# EAGLE library part JTAG (library Tft_lcd_header)
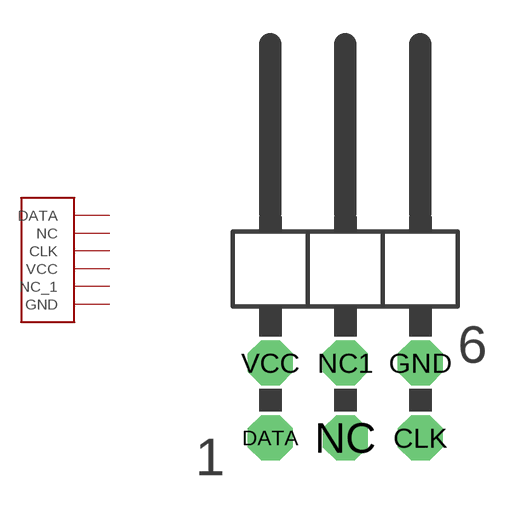
[diagram p2: symbol with the pads of JTAG; footprint JTAG]

Designator prefix -

## JTAG  [JTAG]
CLK  CLK
DATA  DATA
GND  GND  pwr
NC  NC  nc
NC1  NC_1  nc
VCC  VCC  pwr

## Footprint JTAG (pad centres in mm)
drill 1.016 octagon: CLK 0,-2.54; DATA -5.08,-2.54; GND 0,0; NC -2.54,-2.54; NC1 -2.54,0; VCC -5.08,0